# Altium footprint library Stlink v2.PcbLib: 12 footprints
Each footprint in its own frame and in the unit in brackets; x right, y up, seen from the top. Pads: shape width x height; smd on the part's side, far side on the other; paste and mask are expansions set on the pad; w line width, h text height; cw(c..) or ccw(c..) is an arc to the next point about the centre after c.
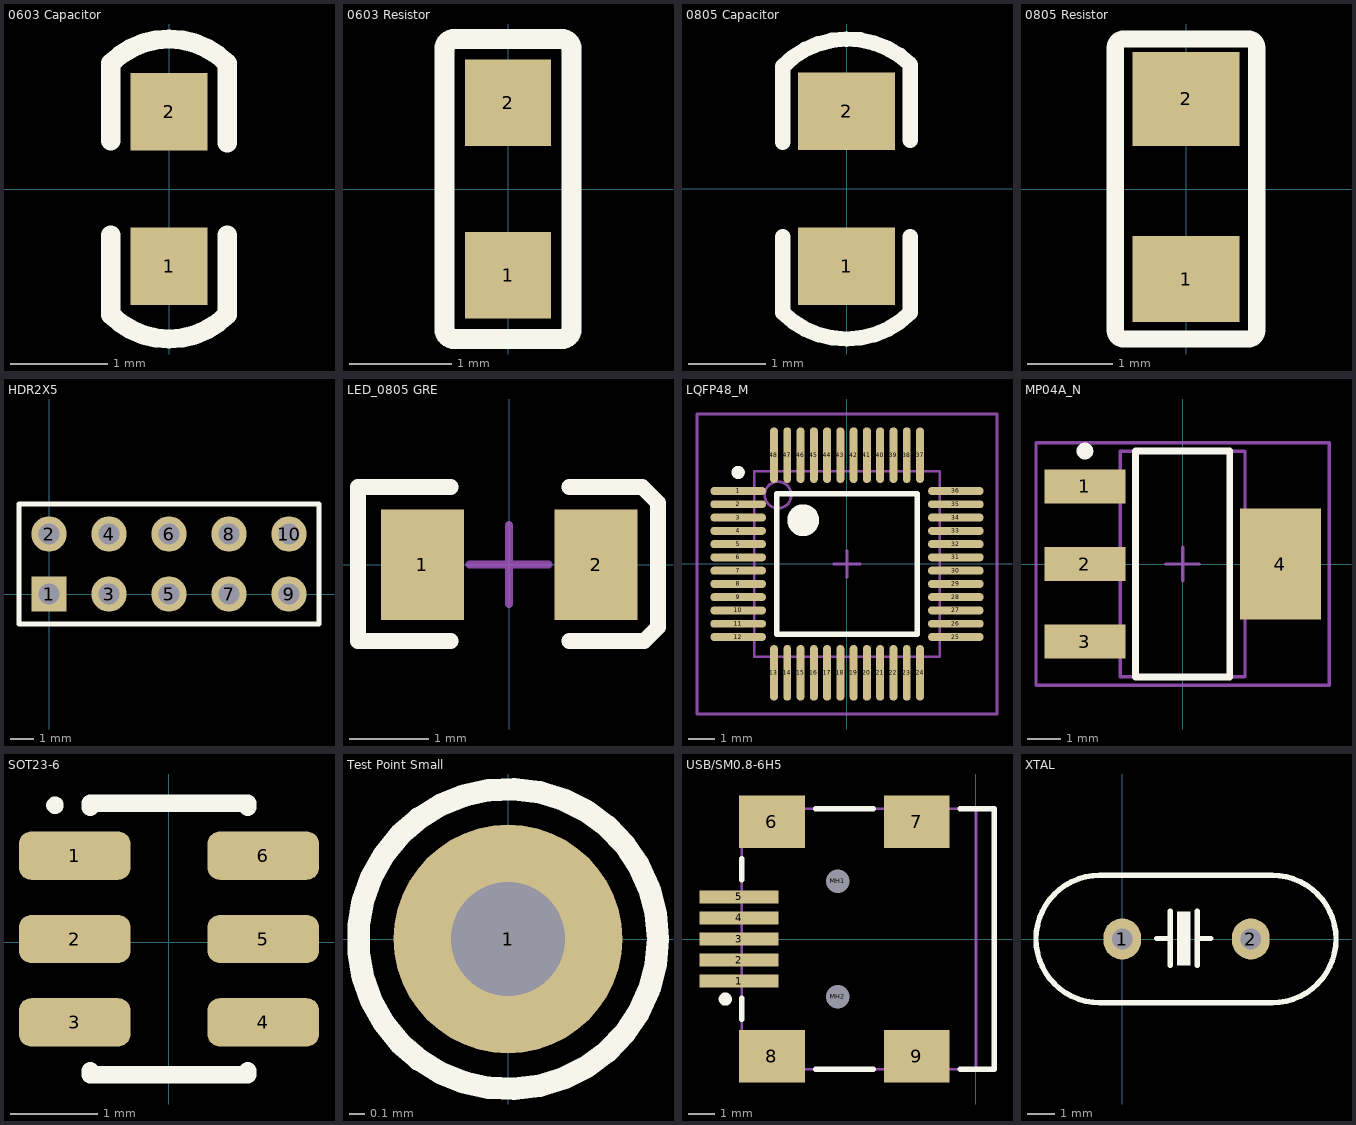
[diagram p0: the footprints below, top view; thin cyan lines are the x and y axes]

## 0603 Capacitor [mm]
height 5
pads (2):
  rect 0.8x0.8 smd: 1(0,-0.8) 2(0,0.8)
Top Overlay:
  lines w0.2: -0.6,-1.3 ccw(c0,-0.7) 0.6,-1.3 ; -0.6,-1.275 -0.6,-0.475 ; -0.6,0.5 -0.6,1.3 cw(c0,0.7) 0.6,1.3 ; 0.6,-1.275 0.6,-0.475 ; 0.6,0.475 0.6,1.275
3D body: height 0.3, standoff 0, extent -0.4,-0.8 0.4,0.8

## 0603 Resistor [mm]
height 5
pads (2):
  rect 0.85x0.85 smd: 1(0,-0.85) 2(0,0.85)
Top Overlay:
  lines w0.2: -0.625,-1.375 ccw(c-0.525,-1.375) -0.525,-1.475 0.525,-1.475 ccw(c0.525,-1.375) 0.625,-1.375 0.625,1.375 ccw(c0.525,1.375) 0.525,1.475 -0.525,1.475 ccw(c-0.525,1.375) -0.625,1.375 -0.625,-1.375
3D body: height 0.45, standoff 0, extent -0.425,-0.775 0.425,0.775

## 0805 Capacitor [mm]
height 5
pads (2):
  rect 1.25x1 smd: 1(0,-1) 2(0,1)
Top Overlay:
  lines w0.2: -0.825,-0.625 -0.825,-1.6 ccw(c0,-0.775) 0.825,-1.6 0.825,-0.625 ; -0.825,0.6 -0.825,1.575 cw(c0.013,0.762) 0.825,1.6 0.825,0.625
3D body: height 0.78, standoff 0, extent -0.625,-1 0.625,1

## 0805 Resistor [mm]
pads (2):
  rect 1.25x1 smd: 1(0,-1.05)
  rect 1.25x1.1 smd: 2(0,1.05)
Top Overlay:
  lines w0.2: -0.825,-1.65 ccw(c-0.725,-1.65) -0.725,-1.75 0.725,-1.75 ccw(c0.725,-1.65) 0.825,-1.65 0.825,1.65 ccw(c0.725,1.65) 0.725,1.75 -0.725,1.75 ccw(c-0.725,1.65) -0.825,1.65 -0.825,-1.65
3D body: height 0.45, standoff 0, extent -0.625,-1 0.625,1

## HDR2X5 [mm] "Connector; Header; 5x2 Position"
height 5
pads (10):
  rect 1.5x1.5 hole 0.9: 1(0,0)
  round 1.5 hole 0.9: 2(0,2.54) 3(2.54,0) 4(2.54,2.54) 5(5.08,0) 6(5.08,2.54) 7(7.62,0) 8(7.62,2.54) 9(10.16,0) 10(10.16,2.54)
Top Overlay:
  lines w0.2: -1.27,-1.27 -1.27,3.81 11.43,3.81 11.43,-1.27 -1.27,-1.27

## LED_0805 GRE [mm]
height 5
pads (2):
  rect 1.05x1.4 smd: 1(-1.1,0) 2(1.1,0)
Top Overlay:
  lines w0.2: -0.74,-0.968 -1.915,-0.968 -1.915,0.982 -0.74,0.982 ; 0.76,-0.968 1.71,-0.968 1.885,-0.793 1.885,0.782 1.685,0.982 0.76,0.982
Mechanical 15:
  lines w0.1: -0.502,0 0.498,0 ; -0.002,-0.5 -0.002,0.5
3D body: height 1.1, standoff 0, extent -1,-0.618 1.02,0.632

## LQFP48_M [mm] "Thin QFP, 48-Leads, Body 7x7mm, Pitch 0.5mm, IPC Low Density"
height 1.6
pads (48):
  oval 2.1x0.3 smd: 1(-4.1,2.75) 2(-4.1,2.25) 3(-4.1,1.75) 4(-4.1,1.25) 5(-4.1,0.75) 6(-4.1,0.25) 7(-4.1,-0.25) 8(-4.1,-0.75) 9(-4.1,-1.25) 10(-4.1,-1.75) 11(-4.1,-2.25) 12(-4.1,-2.75) 25(4.1,-2.75) 26(4.1,-2.25) 27(4.1,-1.75) 28(4.1,-1.25) 29(4.1,-0.75) 30(4.1,-0.25) 31(4.1,0.25) 32(4.1,0.75) 33(4.1,1.25) 34(4.1,1.75) 35(4.1,2.25) 36(4.1,2.75)
  oval 0.3x2.1 smd: 13(-2.75,-4.1) 14(-2.25,-4.1) 15(-1.75,-4.1) 16(-1.25,-4.1) 17(-0.75,-4.1) 18(-0.25,-4.1) 19(0.25,-4.1) 20(0.75,-4.1) 21(1.25,-4.1) 22(1.75,-4.1) 23(2.25,-4.1) 24(2.75,-4.1) 37(2.75,4.1) 38(2.25,4.1) 39(1.75,4.1) 40(1.25,4.1) 41(0.75,4.1) 42(0.25,4.1) 43(-0.25,4.1) 44(-0.75,4.1) 45(-1.25,4.1) 46(-1.75,4.1) 47(-2.25,4.1) 48(-2.75,4.1)
Top Overlay:
  circle w0.6: c-1.65,1.65 r0.3
  circle w0.25: c-4.1,3.45 r0.125
  lines w0.2: -2.65,-2.65 2.65,-2.65 2.65,2.65 -2.65,2.65 -2.65,-2.65
Mechanical 13:
  circle w0.1: c-2.6,2.6 r0.5
  lines w0.1: -3.5,-3.5 3.5,-3.5 3.5,3.5 -3.5,3.5 -3.5,-3.5
Mechanical 15:
  lines w0.1: -0.5,0 0.5,0 ; 0,-0.5 0,0.5 ; -5.65,-5.65 5.65,-5.65 5.65,5.65 -5.65,5.65 -5.65,-5.65
3D body: height 1.6, standoff 0, extent -3.5,-3.5 3.5,3.5

## MP04A_N [mm] "SOT223, 4-Leads, Body 6.5x3.5mm, Pitch 2.3mm, Lead Span 7mm, IPC Medium Density"
height 1.8
pads (4):
  rect 2.4x1 smd: 1(-2.9,2.3) 2(-2.9,0) 3(-2.9,-2.3)
  rect 2.4x3.3 smd: 4(2.9,0)
Top Overlay:
  circle w0.25: c-2.9,3.35 r0.125
  lines w0.2: -1.4,-3.35 1.4,-3.35 1.4,3.35 -1.4,3.35 -1.4,-3.35
Mechanical 13:
  lines w0.1: -1.85,-3.35 1.85,-3.35 1.85,3.35 -1.85,3.35 -1.85,-3.35
Mechanical 15:
  lines w0.1: -0.5,0 0.5,0 ; 0,-0.5 0,0.5 ; -4.35,-3.6 4.35,-3.6 4.35,3.6 -4.35,3.6 -4.35,-3.6
3D body: height 1.64, standoff -0.04, extent -3.49,-3.242 3.49,3.242

## SOT23-6 [mm]
height 5
pads (6):
  rrect50% 1.27x0.55 smd paste+0.038 mask+0.038: 1(-1.072,0.988) 2(-1.072,0.038) 3(-1.072,-0.912) 4(1.078,-0.912) 5(1.078,0.038) 6(1.078,0.988)
Top Overlay:
  circle w0.1: c-1.297,1.563 r0.05
  lines w0.2: -0.897,-1.462 -0.897,-1.512 0.903,-1.512 0.903,-1.462 ; -0.897,1.538 -0.897,1.588 0.903,1.588 0.903,1.538
3D body: height 1.45, standoff 0, extent -1.397,-1.412 1.403,1.488

## Test Point Small [mil]
height 196.85
pads (1):
  round 60 hole 30: 1(0,0)
Top Overlay:
  circle w5.91: c0,0 r39.37
3D body: height 255.91, standoff -118.11, extent -19.68,-19.69 19.68,19.68

## USB/SM0.8-6H5 [mm] "Connector; USB2.0, Type B, SM; 5 Position; Right Angle"
height 3.9
pads (11):
  rect 3x0.5 smd: 1(-9,-1.6) 2(-9,-0.8) 3(-9,0) 4(-9,0.8) 5(-9,1.6)
  rect 2.5x2 smd: 6(-7.75,4.45) 7(-2.25,4.45) 8(-7.75,-4.45) 9(-2.25,-4.45)
  round 0.6 hole 0.9 unplated: MH1(-5.25,2.2) MH2(-5.25,-2.2)
Top Overlay:
  circle w0.25: c-9.525,-2.286 r0.125
  lines w0.2: -8.9,-3.05 -8.9,-2.25 ; -8.9,2.25 -8.9,3.05 ; -6.1,-4.95 -3.9,-4.95 ; -6.1,4.95 -3.9,4.95 ; -0.6,-4.95 0.7,-4.95 0.7,4.95 -0.6,4.95
Mechanical 1:
  lines w0.1: 0,-4.95 0,4.95
  text "PCB Edge" at 0.432,-4.036 h0.25
Mechanical 13:
  lines w0.1: -8.9,-4.95 0.7,-4.95 0.7,4.95 -8.9,4.95 -8.9,-4.95
3D body: height 3.93, standoff -1, extent -8.6,-4.95 0.65,4.95

## XTAL [mil]
height 590.55
pads (2):
  oval 55x60 hole 30: 1(0,0) 2(187.4,0)
Top Overlay:
  rectangle: 79.53,-38.58 99.22,40.16
  lines w7.87: 50,0.79 69.69,0.79 ; 69.69,-38.58 69.69,40.16 ; 109.06,-38.58 109.06,40.16 ; 109.06,0.79 128.74,0.79 ; -32.68,-92.91 cw(c-32.68,0) -32.68,92.91 218.5,92.91 cw(c218.5,0) 218.5,-92.91 -32.68,-92.91
3D body: height 514.25, standoff -94.02, extent -130.71,-93.7 316.14,95.28